# Altium schematic symbol library te.SchLib: 7 symbols
Pins are listed as number, name and electrical type; pins without a type are passive.

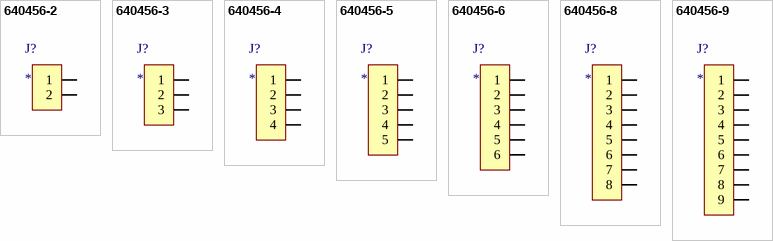
[diagram p0: symbols 640456-2 to 640456-9]

## 640456-2
designator J?
Screw Terminal, 2 Pin
footprint 640456-2 (Pin Header, 2)
pins: 1, 2

## 640456-3
designator J?
Screw Terminal, 3 Pin
footprint 640456-3 (Pin Header, 3)
pins: 1, 2, 3

## 640456-4
designator J?
Screw Terminal, 4 Pin
footprint 640456-4 (Pin Header, 4)
pins: 1, 2, 3, 4

## 640456-5
designator J?
Screw Terminal, 5 Pin
footprint 640456-5 (Pin Header, 5)
pins: 1, 2, 3, 4, 5

## 640456-6
designator J?
Screw Terminal, 6 Pin
footprint 640456-6 (Pin Header, 6)
pins: 1, 2, 3, 4, 5, 6

## 640456-8
designator J?
Screw Terminal, 8 Pin
footprint 640456-8 (Pin Header, 8)
pins: 1, 2, 3, 4, 5, 6, 7, 8

## 640456-9
designator J?
Screw Terminal, 9 Pin
footprint 640456-9 (Pin Header, 9)
pins: 1, 2, 3, 4, 5, 6, 7, 8, 9